# EAGLE library part CY62167EV30-Z (library memory-cypress)
SRAM 16-Mbit (1M x 16 / 2M x 8)
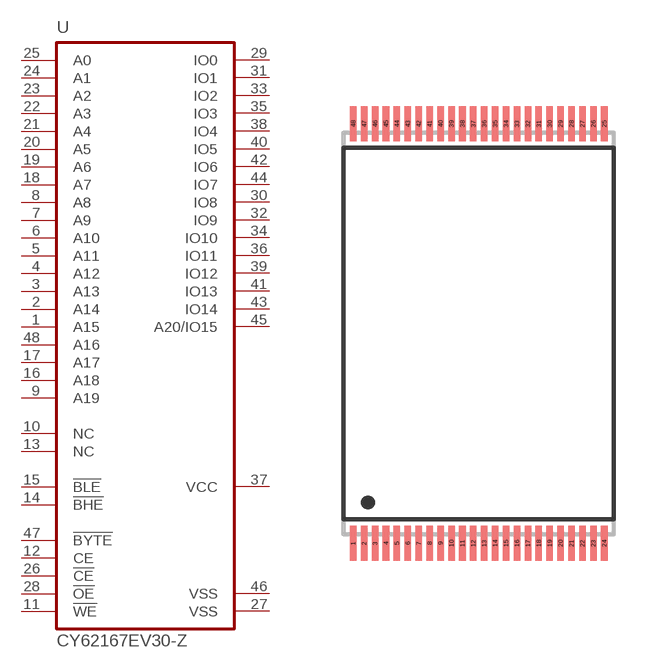
[diagram p0: symbol with the pads of TSOP48; footprint TSOP48]

Designator prefix U

## CY62167EV30-Z  [TSOP48]
1  A15  in
2  A14  in
3  A13  in
4  A12  in
5  A11  in
6  A10  in
7  A9  in
8  A8  in
9  A19  in
10  NC
11  !WE!  in
12  CE  in
13  NC
14  !BHE!  in
15  !BLE!  in
16  A18  in
17  A17  in
18  A7  in
19  A6  in
20  A5  in
21  A4  in
22  A3  in
23  A2  in
24  A1  in
25  A0  in
26  !CE!  in
27  VSS  pwr
28  !OE!  in
29  IO0
30  IO8
31  IO1
32  IO9
33  IO2
34  IO10
35  IO3
36  IO11
37  VCC  pwr
38  IO4
39  IO12
40  IO5
41  IO13
42  IO6
43  IO14
44  IO7
45  A20/IO15
46  VSS  pwr
47  !BYTE!  in
48  A16  in

## Footprint TSOP48 (pad centres in mm)
TSOP-48 body 12 x 18.4 mm, pitch 0.5 mm, JEDEC # MO-142
smd 0.3 x 1.6: 1 -5.75,-9.6; 2 -5.25,-9.6; 3 -4.75,-9.6; 4 -4.25,-9.6; 5 -3.75,-9.6; 6 -3.25,-9.6; 7 -2.75,-9.6; 8 -2.25,-9.6; 9 -1.75,-9.6; 10 -1.25,-9.6; 11 -0.75,-9.6; 12 -0.25,-9.6; 13 0.25,-9.6; 14 0.75,-9.6; 15 1.25,-9.6; 16 1.75,-9.6; 17 2.25,-9.6; 18 2.75,-9.6; 19 3.25,-9.6; 20 3.75,-9.6; 21 4.25,-9.6; 22 4.75,-9.6; 23 5.25,-9.6; 24 5.75,-9.6; 25 5.75,9.6; 26 5.25,9.6; 27 4.75,9.6; 28 4.25,9.6; 29 3.75,9.6; 30 3.25,9.6; 31 2.75,9.6; 32 2.25,9.6; 33 1.75,9.6; 34 1.25,9.6; 35 0.75,9.6; 36 0.25,9.6; 37 -0.25,9.6; 38 -0.75,9.6; 39 -1.25,9.6; 40 -1.75,9.6; 41 -2.25,9.6; 42 -2.75,9.6; 43 -3.25,9.6; 44 -3.75,9.6; 45 -4.25,9.6; 46 -4.75,9.6; 47 -5.25,9.6; 48 -5.75,9.6